# EAGLE library part DAC,DUAL,I2C(AD5697R) (library QuantumOptics)
DAC, dual 12-bit, I2C, int ref, Analog Device's AD5697R.
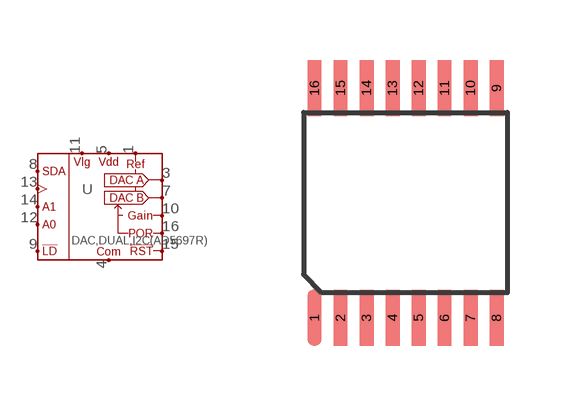
[diagram p213: symbol with the pads of TSSOP-16; footprint TSSOP-16]

Designator prefix U

## DAC,DUAL,I2C(AD5697R)-TSSOP16  [TSSOP-16]
1  VREF
3  OUT-A  out
4  COM
5  VDD
7  OUT-B  out
8  SDA  in
9  !LDAC  in
10  GAIN  in
11  VLOGIC
12  A0  in
13  SCL  in
14  A1  in
15  !RST  in
16  POR  in

## Footprint TSSOP-16 (pad centres in mm)
TSSOP-16, based on Maxim with 4.4mm body.
smd 0.35 x 1.4: 1 -2.275,-2.875; 2 -1.625,-2.875; 3 -0.975,-2.875; 4 -0.325,-2.875; 5 0.325,-2.875; 6 0.975,-2.875; 7 1.625,-2.875; 8 2.275,-2.875; 9 2.275,2.875; 10 1.625,2.875; 11 0.975,2.875; 12 0.325,2.875; 13 -0.325,2.875; 14 -0.975,2.875; 15 -1.625,2.875; 16 -2.275,2.875